# Altium schematic symbol library SCH - MCU - STM32 - ST MICROELECTRONICS STM32L552Z(C-E)TXQ LQFP144.SchLib: 1 symbol
Pins are listed as number, name and electrical type; pins without a type are passive.

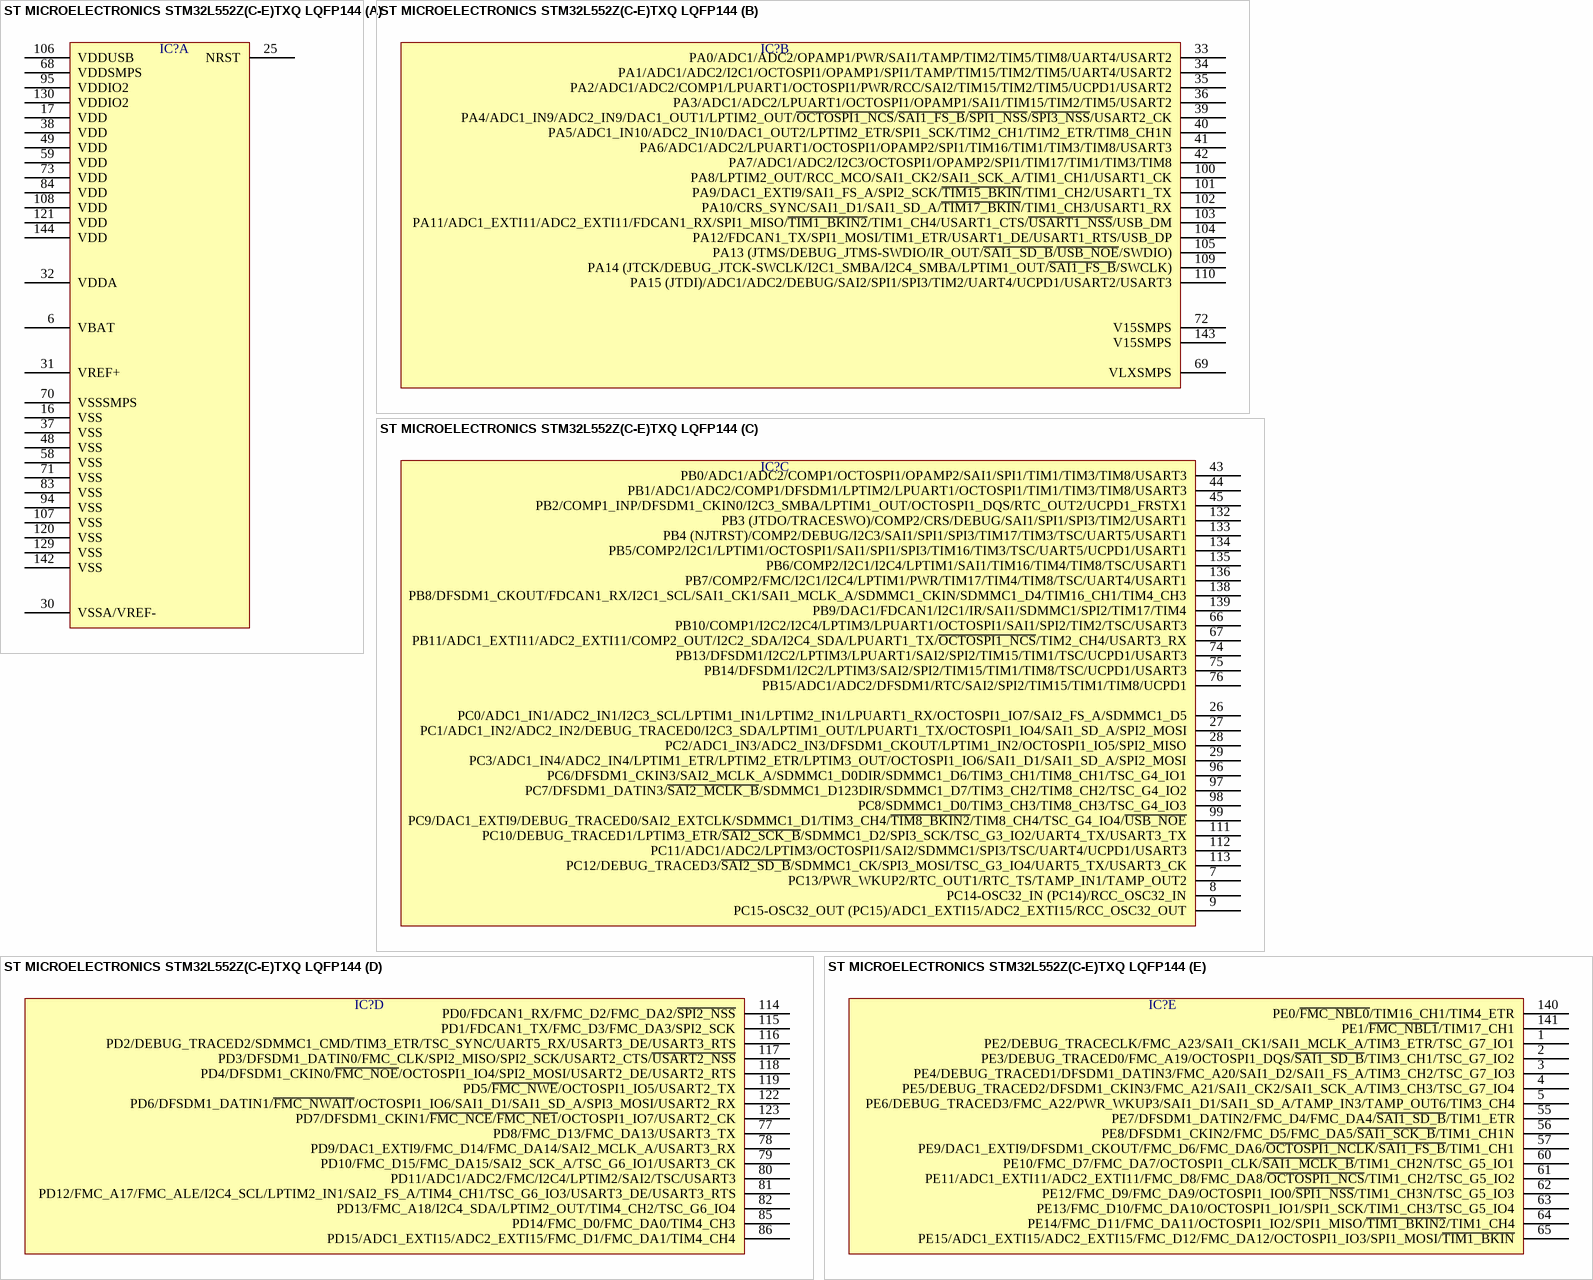
[diagram p0: symbol ST MICROELECTRONICS STM32L552Z(C-E)TXQ LQFP144]

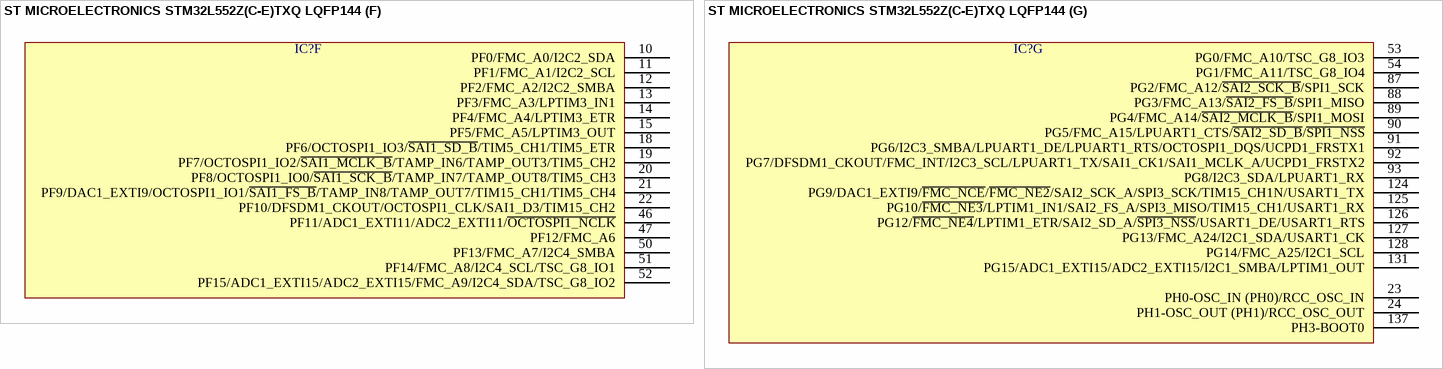
[diagram p1: symbol ST MICROELECTRONICS STM32L552Z(C-E)TXQ LQFP144]

## ST MICROELECTRONICS STM32L552Z(C-E)TXQ LQFP144
designator IC?  (value not drawn)
part A pins: 6 VBAT, 16 VSS, 17 VDD, 25 NRST, 30 VSSA/VREF-, 31 VREF+, 32 VDDA, 37 VSS, 38 VDD, 48 VSS, 49 VDD, 58 VSS, 59 VDD, 68 VDDSMPS, 70 VSSSMPS, 71 VSS, 73 VDD, 83 VSS, 84 VDD, 94 VSS, 95 VDDIO2, 106 VDDUSB, 107 VSS, 108 VDD, 120 VSS, 121 VDD, 129 VSS, 130 VDDIO2, 142 VSS, 144 VDD
part B pins: 33 PA0/ADC1/ADC2/OPAMP1/PWR/SAI1/TAMP/TIM2/TIM5/TIM8/UART4/USART2, 34 PA1/ADC1/ADC2/I2C1/OCTOSPI1/OPAMP1/SPI1/TAMP/TIM15/TIM2/TIM5/UART4/USART2, 35 PA2/ADC1/ADC2/COMP1/LPUART1/OCTOSPI1/PWR/RCC/SAI2/TIM15/TIM2/TIM5/UCPD1/USART2, 36 PA3/ADC1/ADC2/LPUART1/OCTOSPI1/OPAMP1/SAI1/TIM15/TIM2/TIM5/USART2, 39 PA4/ADC1_IN9/ADC2_IN9/DAC1_OUT1/LPTIM2_OUT/~{OCTOSPI1_NCS}/~{SAI1_FS_B}/~{SPI1_NSS}/~{SPI3_NSS}/USART2_CK, 40 PA5/ADC1_IN10/ADC2_IN10/DAC1_OUT2/LPTIM2_ETR/SPI1_SCK/TIM2_CH1/TIM2_ETR/TIM8_CH1N, 41 PA6/ADC1/ADC2/LPUART1/OCTOSPI1/OPAMP2/SPI1/TIM16/TIM1/TIM3/TIM8/USART3, 42 PA7/ADC1/ADC2/I2C3/OCTOSPI1/OPAMP2/SPI1/TIM17/TIM1/TIM3/TIM8, 69 VLXSMPS, 72 V15SMPS, 100 PA8/LPTIM2_OUT/RCC_MCO/SAI1_CK2/SAI1_SCK_A/TIM1_CH1/USART1_CK, 101 PA9/DAC1_EXTI9/SAI1_FS_A/SPI2_SCK/~{TIM15_BKIN}/TIM1_CH2/USART1_TX, 102 PA10/CRS_SYNC/SAI1_D1/SAI1_SD_A/~{TIM17_BKIN}/TIM1_CH3/USART1_RX, 103 PA11/ADC1_EXTI11/ADC2_EXTI11/FDCAN1_RX/SPI1_MISO/~{TIM1_BKIN2}/TIM1_CH4/USART1_CTS/~{USART1_NSS}/USB_DM, 104 PA12/FDCAN1_TX/SPI1_MOSI/TIM1_ETR/USART1_DE/USART1_RTS/USB_DP, 105 PA13 (JTMS/DEBUG_JTMS-SWDIO/IR_OUT/~{SAI1_SD_B}/~{USB_NOE}/SWDIO), 109 PA14 (JTCK/DEBUG_JTCK-SWCLK/I2C1_SMBA/I2C4_SMBA/LPTIM1_OUT/~{SAI1_FS_B}/SWCLK), 110 PA15 (JTDI)/ADC1/ADC2/DEBUG/SAI2/SPI1/SPI3/TIM2/UART4/UCPD1/USART2/USART3, 143 V15SMPS
part C pins: 7 PC13/PWR_WKUP2/RTC_OUT1/RTC_TS/TAMP_IN1/TAMP_OUT2, 8 PC14-OSC32_IN (PC14)/RCC_OSC32_IN, 9 PC15-OSC32_OUT (PC15)/ADC1_EXTI15/ADC2_EXTI15/RCC_OSC32_OUT, 26 PC0/ADC1_IN1/ADC2_IN1/I2C3_SCL/LPTIM1_IN1/LPTIM2_IN1/LPUART1_RX/OCTOSPI1_IO7/SAI2_FS_A/SDMMC1_D5, 27 PC1/ADC1_IN2/ADC2_IN2/DEBUG_TRACED0/I2C3_SDA/LPTIM1_OUT/LPUART1_TX/OCTOSPI1_IO4/SAI1_SD_A/SPI2_MOSI, 28 PC2/ADC1_IN3/ADC2_IN3/DFSDM1_CKOUT/LPTIM1_IN2/OCTOSPI1_IO5/SPI2_MISO, 29 PC3/ADC1_IN4/ADC2_IN4/LPTIM1_ETR/LPTIM2_ETR/LPTIM3_OUT/OCTOSPI1_IO6/SAI1_D1/SAI1_SD_A/SPI2_MOSI, 43 PB0/ADC1/ADC2/COMP1/OCTOSPI1/OPAMP2/SAI1/SPI1/TIM1/TIM3/TIM8/USART3, 44 PB1/ADC1/ADC2/COMP1/DFSDM1/LPTIM2/LPUART1/OCTOSPI1/TIM1/TIM3/TIM8/USART3, 45 PB2/COMP1_INP/DFSDM1_CKIN0/I2C3_SMBA/LPTIM1_OUT/OCTOSPI1_DQS/RTC_OUT2/UCPD1_FRSTX1, 66 PB10/COMP1/I2C2/I2C4/LPTIM3/LPUART1/OCTOSPI1/SAI1/SPI2/TIM2/TSC/USART3, 67 PB11/ADC1_EXTI11/ADC2_EXTI11/COMP2_OUT/I2C2_SDA/I2C4_SDA/LPUART1_TX/~{OCTOSPI1_NCS}/TIM2_CH4/USART3_RX, 74 PB13/DFSDM1/I2C2/LPTIM3/LPUART1/SAI2/SPI2/TIM15/TIM1/TSC/UCPD1/USART3, 75 PB14/DFSDM1/I2C2/LPTIM3/SAI2/SPI2/TIM15/TIM1/TIM8/TSC/UCPD1/USART3, 76 PB15/ADC1/ADC2/DFSDM1/RTC/SAI2/SPI2/TIM15/TIM1/TIM8/UCPD1, 96 PC6/DFSDM1_CKIN3/SAI2_MCLK_A/SDMMC1_D0DIR/SDMMC1_D6/TIM3_CH1/TIM8_CH1/TSC_G4_IO1, 97 PC7/DFSDM1_DATIN3/~{SAI2_MCLK_B}/SDMMC1_D123DIR/SDMMC1_D7/TIM3_CH2/TIM8_CH2/TSC_G4_IO2, 98 PC8/SDMMC1_D0/TIM3_CH3/TIM8_CH3/TSC_G4_IO3, 99 PC9/DAC1_EXTI9/DEBUG_TRACED0/SAI2_EXTCLK/SDMMC1_D1/TIM3_CH4/~{TIM8_BKIN2}/TIM8_CH4/TSC_G4_IO4/~{USB_NOE}, 111 PC10/DEBUG_TRACED1/LPTIM3_ETR/~{SAI2_SCK_B}/SDMMC1_D2/SPI3_SCK/TSC_G3_IO2/UART4_TX/USART3_TX, 112 PC11/ADC1/ADC2/LPTIM3/OCTOSPI1/SAI2/SDMMC1/SPI3/TSC/UART4/UCPD1/USART3, 113 PC12/DEBUG_TRACED3/~{SAI2_SD_B}/SDMMC1_CK/SPI3_MOSI/TSC_G3_IO4/UART5_TX/USART3_CK, 132 PB3 (JTDO/TRACESWO)/COMP2/CRS/DEBUG/SAI1/SPI1/SPI3/TIM2/USART1, 133 PB4 (NJTRST)/COMP2/DEBUG/I2C3/SAI1/SPI1/SPI3/TIM17/TIM3/TSC/UART5/USART1, 134 PB5/COMP2/I2C1/LPTIM1/OCTOSPI1/SAI1/SPI1/SPI3/TIM16/TIM3/TSC/UART5/UCPD1/USART1, 135 PB6/COMP2/I2C1/I2C4/LPTIM1/SAI1/TIM16/TIM4/TIM8/TSC/USART1, 136 PB7/COMP2/FMC/I2C1/I2C4/LPTIM1/PWR/TIM17/TIM4/TIM8/TSC/UART4/USART1, 138 PB8/DFSDM1_CKOUT/FDCAN1_RX/I2C1_SCL/SAI1_CK1/SAI1_MCLK_A/SDMMC1_CKIN/SDMMC1_D4/TIM16_CH1/TIM4_CH3, 139 PB9/DAC1/FDCAN1/I2C1/IR/SAI1/SDMMC1/SPI2/TIM17/TIM4
part D pins: 77 PD8/FMC_D13/FMC_DA13/USART3_TX, 78 PD9/DAC1_EXTI9/FMC_D14/FMC_DA14/SAI2_MCLK_A/USART3_RX, 79 PD10/FMC_D15/FMC_DA15/SAI2_SCK_A/TSC_G6_IO1/USART3_CK, 80 PD11/ADC1/ADC2/FMC/I2C4/LPTIM2/SAI2/TSC/USART3, 81 PD12/FMC_A17/FMC_ALE/I2C4_SCL/LPTIM2_IN1/SAI2_FS_A/TIM4_CH1/TSC_G6_IO3/USART3_DE/USART3_RTS, 82 PD13/FMC_A18/I2C4_SDA/LPTIM2_OUT/TIM4_CH2/TSC_G6_IO4, 85 PD14/FMC_D0/FMC_DA0/TIM4_CH3, 86 PD15/ADC1_EXTI15/ADC2_EXTI15/FMC_D1/FMC_DA1/TIM4_CH4, 114 PD0/FDCAN1_RX/FMC_D2/FMC_DA2/~{SPI2_NSS}, 115 PD1/FDCAN1_TX/FMC_D3/FMC_DA3/SPI2_SCK, 116 PD2/DEBUG_TRACED2/SDMMC1_CMD/TIM3_ETR/TSC_SYNC/UART5_RX/USART3_DE/USART3_RTS, 117 PD3/DFSDM1_DATIN0/FMC_CLK/SPI2_MISO/SPI2_SCK/USART2_CTS/~{USART2_NSS}, 118 PD4/DFSDM1_CKIN0/~{FMC_NOE}/OCTOSPI1_IO4/SPI2_MOSI/USART2_DE/USART2_RTS, 119 PD5/~{FMC_NWE}/OCTOSPI1_IO5/USART2_TX, 122 PD6/DFSDM1_DATIN1/~{FMC_NWAIT}/OCTOSPI1_IO6/SAI1_D1/SAI1_SD_A/SPI3_MOSI/USART2_RX, 123 PD7/DFSDM1_CKIN1/~{FMC_NCE}/~{FMC_NE1}/OCTOSPI1_IO7/USART2_CK
part E pins: 1 PE2/DEBUG_TRACECLK/FMC_A23/SAI1_CK1/SAI1_MCLK_A/TIM3_ETR/TSC_G7_IO1, 2 PE3/DEBUG_TRACED0/FMC_A19/OCTOSPI1_DQS/~{SAI1_SD_B}/TIM3_CH1/TSC_G7_IO2, 3 PE4/DEBUG_TRACED1/DFSDM1_DATIN3/FMC_A20/SAI1_D2/SAI1_FS_A/TIM3_CH2/TSC_G7_IO3, 4 PE5/DEBUG_TRACED2/DFSDM1_CKIN3/FMC_A21/SAI1_CK2/SAI1_SCK_A/TIM3_CH3/TSC_G7_IO4, 5 PE6/DEBUG_TRACED3/FMC_A22/PWR_WKUP3/SAI1_D1/SAI1_SD_A/TAMP_IN3/TAMP_OUT6/TIM3_CH4, 55 PE7/DFSDM1_DATIN2/FMC_D4/FMC_DA4/~{SAI1_SD_B}/TIM1_ETR, 56 PE8/DFSDM1_CKIN2/FMC_D5/FMC_DA5/~{SAI1_SCK_B}/TIM1_CH1N, 57 PE9/DAC1_EXTI9/DFSDM1_CKOUT/FMC_D6/FMC_DA6/~{OCTOSPI1_NCLK}/~{SAI1_FS_B}/TIM1_CH1, 60 PE10/FMC_D7/FMC_DA7/OCTOSPI1_CLK/~{SAI1_MCLK_B}/TIM1_CH2N/TSC_G5_IO1, 61 PE11/ADC1_EXTI11/ADC2_EXTI11/FMC_D8/FMC_DA8/~{OCTOSPI1_NCS}/TIM1_CH2/TSC_G5_IO2, 62 PE12/FMC_D9/FMC_DA9/OCTOSPI1_IO0/~{SPI1_NSS}/TIM1_CH3N/TSC_G5_IO3, 63 PE13/FMC_D10/FMC_DA10/OCTOSPI1_IO1/SPI1_SCK/TIM1_CH3/TSC_G5_IO4, 64 PE14/FMC_D11/FMC_DA11/OCTOSPI1_IO2/SPI1_MISO/~{TIM1_BKIN2}/TIM1_CH4, 65 PE15/ADC1_EXTI15/ADC2_EXTI15/FMC_D12/FMC_DA12/OCTOSPI1_IO3/SPI1_MOSI/~{TIM1_BKIN}, 140 PE0/~{FMC_NBL0}/TIM16_CH1/TIM4_ETR, 141 PE1/~{FMC_NBL1}/TIM17_CH1
part F pins: 10 PF0/FMC_A0/I2C2_SDA, 11 PF1/FMC_A1/I2C2_SCL, 12 PF2/FMC_A2/I2C2_SMBA, 13 PF3/FMC_A3/LPTIM3_IN1, 14 PF4/FMC_A4/LPTIM3_ETR, 15 PF5/FMC_A5/LPTIM3_OUT, 18 PF6/OCTOSPI1_IO3/~{SAI1_SD_B}/TIM5_CH1/TIM5_ETR, 19 PF7/OCTOSPI1_IO2/~{SAI1_MCLK_B}/TAMP_IN6/TAMP_OUT3/TIM5_CH2, 20 PF8/OCTOSPI1_IO0/~{SAI1_SCK_B}/TAMP_IN7/TAMP_OUT8/TIM5_CH3, 21 PF9/DAC1_EXTI9/OCTOSPI1_IO1/~{SAI1_FS_B}/TAMP_IN8/TAMP_OUT7/TIM15_CH1/TIM5_CH4, 22 PF10/DFSDM1_CKOUT/OCTOSPI1_CLK/SAI1_D3/TIM15_CH2, 46 PF11/ADC1_EXTI11/ADC2_EXTI11/~{OCTOSPI1_NCLK}, 47 PF12/FMC_A6, 50 PF13/FMC_A7/I2C4_SMBA, 51 PF14/FMC_A8/I2C4_SCL/TSC_G8_IO1, 52 PF15/ADC1_EXTI15/ADC2_EXTI15/FMC_A9/I2C4_SDA/TSC_G8_IO2
part G pins: 23 PH0-OSC_IN (PH0)/RCC_OSC_IN, 24 PH1-OSC_OUT (PH1)/RCC_OSC_OUT, 53 PG0/FMC_A10/TSC_G8_IO3, 54 PG1/FMC_A11/TSC_G8_IO4, 87 PG2/FMC_A12/~{SAI2_SCK_B}/SPI1_SCK, 88 PG3/FMC_A13/~{SAI2_FS_B}/SPI1_MISO, 89 PG4/FMC_A14/~{SAI2_MCLK_B}/SPI1_MOSI, 90 PG5/FMC_A15/LPUART1_CTS/~{SAI2_SD_B}/~{SPI1_NSS}, 91 PG6/I2C3_SMBA/LPUART1_DE/LPUART1_RTS/OCTOSPI1_DQS/UCPD1_FRSTX1, 92 PG7/DFSDM1_CKOUT/FMC_INT/I2C3_SCL/LPUART1_TX/SAI1_CK1/SAI1_MCLK_A/UCPD1_FRSTX2, 93 PG8/I2C3_SDA/LPUART1_RX, 124 PG9/DAC1_EXTI9/~{FMC_NCE}/~{FMC_NE2}/SAI2_SCK_A/SPI3_SCK/TIM15_CH1N/USART1_TX, 125 PG10/~{FMC_NE3}/LPTIM1_IN1/SAI2_FS_A/SPI3_MISO/TIM15_CH1/USART1_RX, 126 PG12/~{FMC_NE4}/LPTIM1_ETR/SAI2_SD_A/~{SPI3_NSS}/USART1_DE/USART1_RTS, 127 PG13/FMC_A24/I2C1_SDA/USART1_CK, 128 PG14/FMC_A25/I2C1_SCL, 131 PG15/ADC1_EXTI15/ADC2_EXTI15/I2C1_SMBA/LPTIM1_OUT, 137 PH3-BOOT0